# EAGLE library part DMN2004DMK (library KwanSystems)
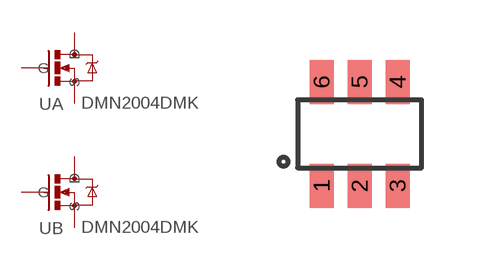
[diagram p11: symbol with the pads of SOT-23-6; footprint SOT-23-6]

Designator prefix -; gates A=MOSFET_NCHANNEL B=MOSFET_NCHANNEL

## DMN2004DMK  [SOT-23-6]
1  A:S  pas
2  A:G  pas
3  B:D  pas
4  B:S  pas
5  B:G  pas
6  A:D  pas

## Footprint SOT-23-6 (pad centres in mm)
smd 0.6 x 1.1: 1 -0.95,-1.3; 2 0,-1.3; 3 0.95,-1.3; 4 0.95,1.3; 5 0,1.3; 6 -0.95,1.3